# Altium footprint library Antenna_WUSB.PcbLib: 1 footprints
Each footprint in its own frame and in the unit in brackets; x right, y up, seen from the top. Pads: shape width x height; smd on the part's side, far side on the other; paste and mask are expansions set on the pad; w line width, h text height; cw(c..) or ccw(c..) is an arc to the next point about the centre after c.
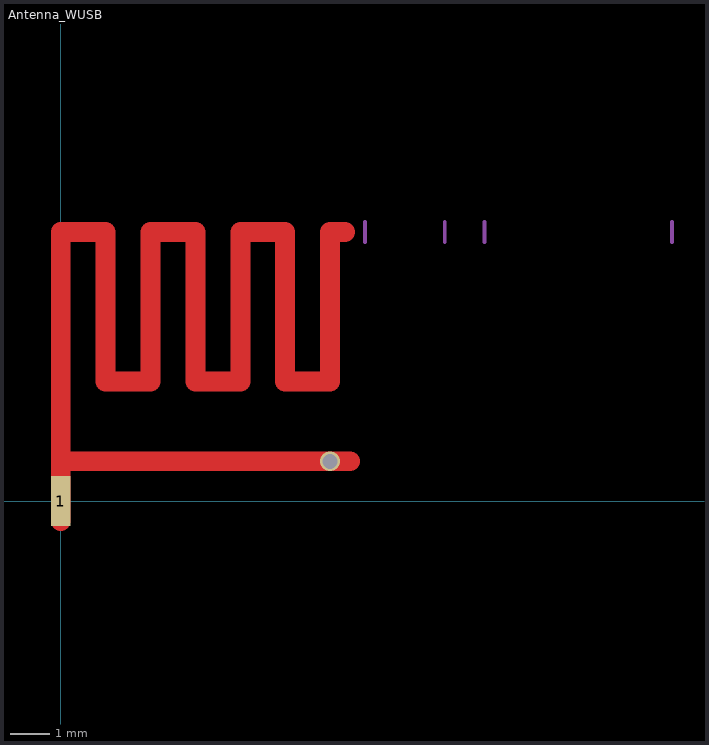
[diagram p0: the footprint, top view; thin cyan lines are the x and y axes]

## Antenna_WUSB [mil] "Antenna wireless usb"
pads (1):
  rect 20x50 smd: 1(0,0)
via 270,40 diameter 20 hole 15
Top Layer:
  lines w20: 0,-20 0,270 45,270 45,120 90,120 90,270 135,270 135,120 180,120 180,270 225,270 225,120 270,120 270,270 285,270 ; 0,40 290,40
Mechanical 7:
  lines w3.94: 305,260 305,280 ; 385,260 385,280 ; 425,260 425,280 ; 613,260 613,280
  text "0.4" at 615,245 h35
  text "0.8" at 425,250 h40
  text "1.2" at 360,245 h40
  text "1.6" at 290,245 h40